# EAGLE library part LPV542 (library LPV542)
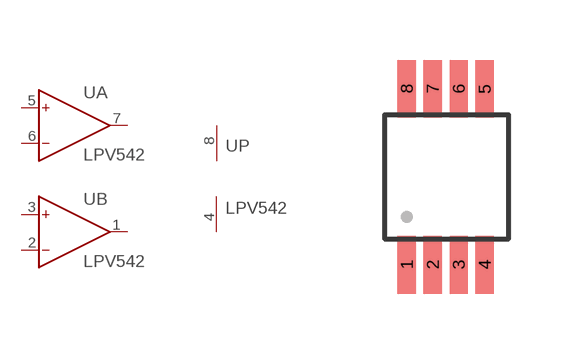
[diagram p0: symbol with the pads of VSSOP8; footprint VSSOP8]

Designator prefix -; gates B=OP A=OP P=PWR+-

## LPV542  [VSSOP8]
1  B:OUT  out
2  B:IN-  in
3  B:IN+  in
4  P:V-  pwr
5  A:IN+  in
6  A:IN-  in
7  A:OUT  out
8  P:V+  pwr

## Footprint VSSOP8 (pad centres in mm)
smd 0.45 x 1.45: 1 0,0; 2 0.65,0; 3 1.3,0; 4 1.95,0; 5 1.95,4.4; 6 1.3,4.4; 7 0.65,4.4; 8 0,4.4